# EAGLE library part 6120XX22323_61202022323 (library WR-BHD)
WR-BHD 2.54 mm Cable Side Characteristics Working Voltage: 250 V Operating Temperature : -40°C up to 105°C UL approval: E323964 UL94-V0 Applications Industrial Production lines Details see: www.we-online.com/components/products/WTB_WR_BHD_BOX_HEADER_2_54MM_FEMALE_CABLE_SIDE Updated by Ella 2026-09-16 2026 (C) Würth Elektronik
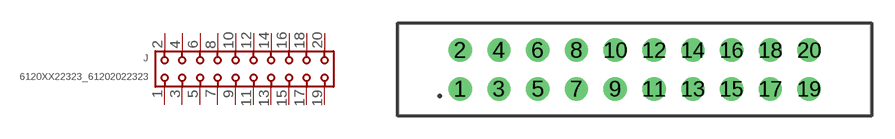
[diagram p152: symbol with the pads of 61202022323; footprint 61202022323]

Designator prefix J

## 6120XX22323_61202022323 (CATEGORY: Connectors; DATASHEET: https://www.we-online.com/redexpert/spec/61202022323?ae; GENDER: Female; LENGTH: 30.85 mm; MANUFACTURER: Würth Elektronik; MATES_WITH: 600612282804; MOUNT: THT; MPN: 61202022323; OPERATING_TEMPERATURE: -40 °C up to +105 °C; PACKAGING: Tray; PINS: 20; PITCH: 2.54mm; RATED_CURRENT: 1 A; SIZE: Transition; TYPE: Straight; VALUE: 61202022323)  [61202022323]
1  1  pas
2  2  pas
3  3  pas
4  4  pas
5  5  pas
6  6  pas
7  7  pas
8  8  pas
9  9  pas
10  10  pas
11  11  pas
12  12  pas
13  13  pas
14  14  pas
15  15  pas
16  16  pas
17  17  pas
18  18  pas
19  19  pas
20  20  pas

## Footprint 61202022323 (pad centres in mm)
WR-BHD Wire-to-Board Connectors, 2.54mm, Female, Transition, 20pins
drill 1.02: 1 -11.43,-1.27; 2 -11.43,1.27; 3 -8.89,-1.27; 4 -8.89,1.27; 5 -6.35,-1.27; 6 -6.35,1.27; 7 -3.81,-1.27; 8 -3.81,1.27; 9 -1.27,-1.27; 10 -1.27,1.27; 11 1.27,-1.27; 12 1.27,1.27; 13 3.81,-1.27; 14 3.81,1.27; 15 6.35,-1.27; 16 6.35,1.27; 17 8.89,-1.27; 18 8.89,1.27; 19 11.43,-1.27; 20 11.43,1.27